# Altium integrated library Maxim Digital Potentiometers.IntLib: 1045 symbols (part 9 of 42)
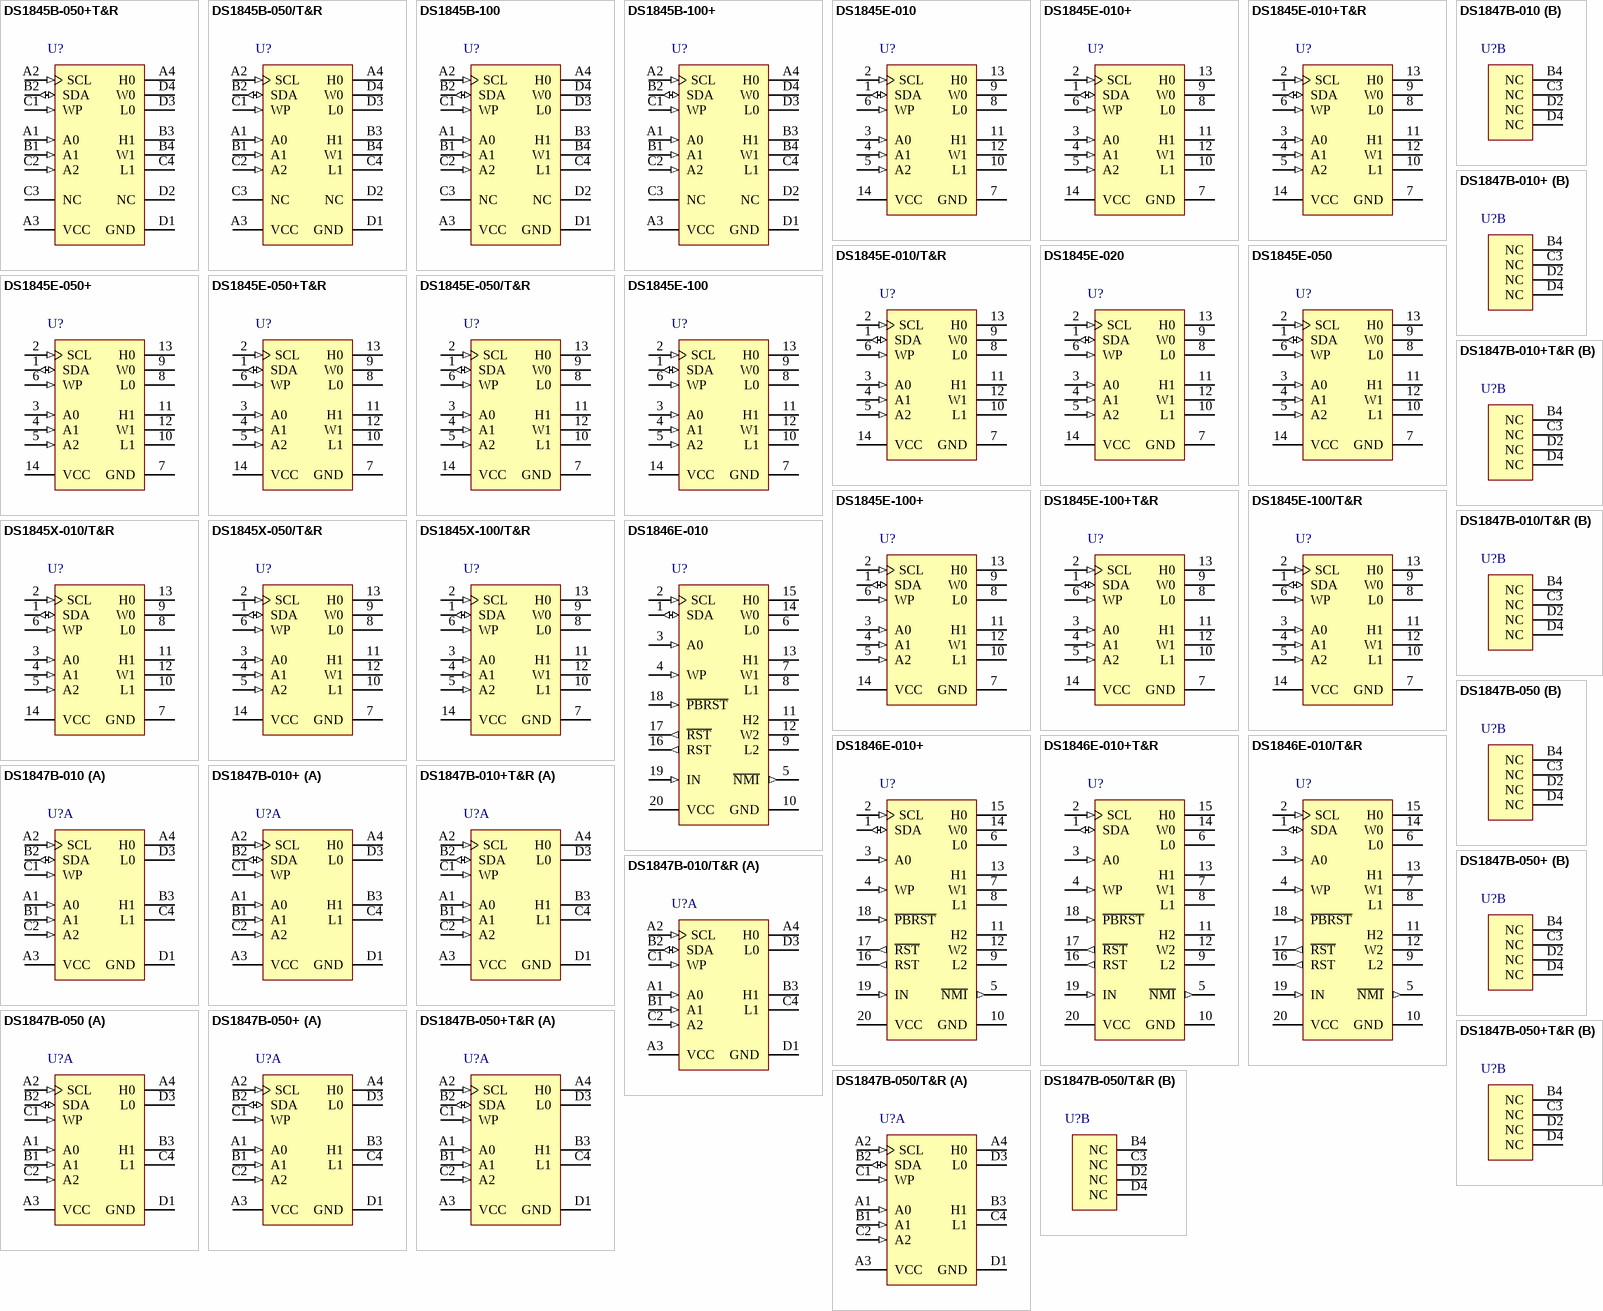
[diagram p37: symbols DS1845B-050+T&R to DS1847B-050/T&R]

## DS1845B-100
designator U?
Dual NV Potentiometer and Memory with 2-Wire Addressable Control Interface, Non-Volatile, Linear Taper, 100+256 Steps, -40 to 85 degC, 16-pin CSBGA (X16-1); PartNumber: DS1845B-100; DatasheetVersion: Rev. 3; PackageVersion: Rev. B, 06/2010; PackageReference: X16-1; PackageDescription: 16-Ball Chip-Scale Ball-Grid Array (X16-1), Body 4 x 4 mm, Pitch 1.0 mm; Supplier 1: Digi-Key; Supplier Part Number 1: DS1845B-100-ND; Supplier 2: Mouser; Supplier Part Number 2: N/A; Applications: Fiber Communications, GBIC; Control Interface: 2-Wire Addressable; Features: 256-Byte User EEPROM, EEPROM Wiper Memory; Mounting Technology: Surface Mount; ComponentLink1Description: Manufacturer URL; ComponentLink1URL: http://www.maximintegrated.com/; ComponentLink2Description: Datasheet; ComponentLink2URL: http://datasheets.maximintegrated.com/en/ds/DS1845.pdf; ComponentLink3Description: Package Specification; ComponentLink3URL: http://pdfserv.maximintegrated.com/package_dwgs/21-0355.PDF
footprint MAXM-X16-1 (BGA, 16-Balls, Body 4x4mm, Pitch 1.0mm)
pins: A1 A0 (in) "Address Input. Pins A0, A1, and A2 are used to specify the address of each DS1855 when used in a multi-dropped configuration. Up to eight DS1855s may be addressed on a single 2-wire bus.", A2 SCL (in) "2-Wire Serial Clock Input. The serial clock input is used to clock data into the DS1855 on rising edges and clock data out on falling edges.", A3 VCC (power) "Power Supply Terminal. The DS1855 will support supply voltages ranging from +2.7V to +5.5V.", A4 H0 "High terminal of Potentiometer 0. For both potentiometers, it is not required that the high terminal be connected to a potential greater than the low terminal. Voltage applied to the high terminal of each potentiometer (See Datasheet)", B1 A1 (in) "Address Input.", B2 SDA (io) "2-Wire serial data interface. The serial data pin is for serial data transfer to and from the DS1855. The pin is open drain and may be wire-ORed with other open drain or open collector interfaces.", B3 H1 "High terminal of Potentiometer 1.", B4 W1 "Wiper terminal of Pot 1. The wiper position of Potentiometer 1 is determined by the byte at EEPROM memory location F8h.", C1 WP (in) "Write Protect Input. If set to logic 0, the data in memory and the potentiometer wiper setting may be changed. If set to logic 1, both the memory and the potentiometer wiper settings will be write protected. The WP pin is (See Datasheet)", C2 A2 (in) "Address Input.", C3 NC "No Connect.", C4 L1 "Low terminal of Potentiometer 1.", D1 GND (power) "Ground Terminal.", D2 NC "No Connect.", D3 L0 "Low terminal of Potentiometer 0. For both potentiometers, it is not required that the low terminal be connected to a potential less than the high terminal. Voltage applied to the low terminal of each potentiometer cannot (See Datasheet)", D4 W0 "Wiper terminal of Pot 0. The wiper position of Potentiometer 0 is determined by the byte at EEPROM memory location F9h. Voltage applied to the wiper terminal of each potentiometer cannot exceed the power supply voltage, VCC, (See Datasheet)"

## DS1845B-100+
designator U?
Dual NV Potentiometer and Memory with 2-Wire Addressable Control Interface, Non-Volatile, Linear Taper, 100+256 Steps, -40 to 85 degC, 16-pin CSBGA (X16+1), Pb-Free; PartNumber: DS1845B-100+; DatasheetVersion: Rev. 3; PackageVersion: Rev. B, 06/2010; PackageReference: X16+1; PackageDescription: 16-Ball Chip-Scale Ball-Grid Array (X16+1), Body 4 x 4 mm, Pitch 1.0 mm; Supplier 1: Digi-Key; Supplier Part Number 1: DS1845B-100+-ND; Supplier 2: Mouser; Supplier Part Number 2: 700-DS1845B-100; Applications: Fiber Communications, GBIC; Control Interface: 2-Wire Addressable; Features: 256-Byte User EEPROM, EEPROM Wiper Memory; Mounting Technology: Surface Mount; ComponentLink1Description: Manufacturer URL; ComponentLink1URL: http://www.maximintegrated.com/; ComponentLink2Description: Datasheet; ComponentLink2URL: http://datasheets.maximintegrated.com/en/ds/DS1845.pdf; ComponentLink3Description: Package Specification; ComponentLink3URL: http://pdfserv.maximintegrated.com/package_dwgs/21-0355.PDF
footprint MAXM-X16+1 (BGA, 16-Balls, Body 4x4mm, Pitch 1.0mm)
pins: A1 A0 (in) "Address Input. Pins A0, A1, and A2 are used to specify the address of each DS1855 when used in a multi-dropped configuration. Up to eight DS1855s may be addressed on a single 2-wire bus.", A2 SCL (in) "2-Wire Serial Clock Input. The serial clock input is used to clock data into the DS1855 on rising edges and clock data out on falling edges.", A3 VCC (power) "Power Supply Terminal. The DS1855 will support supply voltages ranging from +2.7V to +5.5V.", A4 H0 "High terminal of Potentiometer 0. For both potentiometers, it is not required that the high terminal be connected to a potential greater than the low terminal. Voltage applied to the high terminal of each potentiometer (See Datasheet)", B1 A1 (in) "Address Input.", B2 SDA (io) "2-Wire serial data interface. The serial data pin is for serial data transfer to and from the DS1855. The pin is open drain and may be wire-ORed with other open drain or open collector interfaces.", B3 H1 "High terminal of Potentiometer 1.", B4 W1 "Wiper terminal of Pot 1. The wiper position of Potentiometer 1 is determined by the byte at EEPROM memory location F8h.", C1 WP (in) "Write Protect Input. If set to logic 0, the data in memory and the potentiometer wiper setting may be changed. If set to logic 1, both the memory and the potentiometer wiper settings will be write protected. The WP pin is (See Datasheet)", C2 A2 (in) "Address Input.", C3 NC "No Connect.", C4 L1 "Low terminal of Potentiometer 1.", D1 GND (power) "Ground Terminal.", D2 NC "No Connect.", D3 L0 "Low terminal of Potentiometer 0. For both potentiometers, it is not required that the low terminal be connected to a potential less than the high terminal. Voltage applied to the low terminal of each potentiometer cannot (See Datasheet)", D4 W0 "Wiper terminal of Pot 0. The wiper position of Potentiometer 0 is determined by the byte at EEPROM memory location F9h. Voltage applied to the wiper terminal of each potentiometer cannot exceed the power supply voltage, VCC, (See Datasheet)"

## DS1845E-010
designator U?
Dual NV Potentiometer and Memory with 2-Wire Addressable Control Interface, Non-Volatile, Linear Taper, 100+256 Steps, -40 to 85 degC, 14-pin TSSOP (U14-1); PartNumber: DS1845E-010; DatasheetVersion: Rev. 3; PackageVersion: Rev. L, 07/2010; PackageReference: U14-1; PackageDescription: 14-Pin Thin Shrink Small-Outline Package (U14-1), Body 5 x 4.4 mm, Pitch 0.65 mm; Supplier 1: Digi-Key; Supplier Part Number 1: DS1845E-010-ND; Supplier 2: Mouser; Supplier Part Number 2: N/A; Applications: Fiber Communications, GBIC; Control Interface: 2-Wire Addressable; Features: 256-Byte User EEPROM, EEPROM Wiper Memory; Mounting Technology: Surface Mount; Code_JEDEC: MO-153; ComponentLink1Description: Manufacturer URL; ComponentLink1URL: http://www.maximintegrated.com/; ComponentLink2Description: Datasheet; ComponentLink2URL: http://datasheets.maximintegrated.com/en/ds/DS1845.pdf; ComponentLink3Description: Package Specification; ComponentLink3URL: http://pdfserv.maximintegrated.com/package_dwgs/21-0066.PDF
footprint MAXM-U14-1_N (SOP, 14-Leads, Body 5x4.4mm, Pitch 0.65mm, IPC Medium Density)
footprint MAXM-U14-1_L (SOP, 14-Leads, Body 5x4.4mm, Pitch 0.65mm, IPC High Density)
footprint MAXM-U14-1_M (SOP, 14-Leads, Body 5x4.4mm, Pitch 0.65mm, IPC Low Density)
pins: 1 SDA (io) "2-Wire serial data interface. The serial data pin is for serial data transfer to and from the DS1855. The pin is open drain and may be wire-ORed with other open drain or open collector interfaces.", 2 SCL (in) "2-Wire Serial Clock Input. The serial clock input is used to clock data into the DS1855 on rising edges and clock data out on falling edges.", 3 A0 (in) "Address Input. Pins A0, A1, and A2 are used to specify the address of each DS1855 when used in a multi-dropped configuration. Up to eight DS1855s may be addressed on a single 2-wire bus.", 4 A1 (in) "Address Input.", 5 A2 (in) "Address Input.", 6 WP (in) "Write Protect Input. If set to logic 0, the data in memory and the potentiometer wiper setting may be changed. If set to logic 1, both the memory and the potentiometer wiper settings will be write protected. The WP pin is (See Datasheet)", 7 GND (power) "Ground Terminal.", 8 L0 "Low terminal of Potentiometer 0. For both potentiometers, it is not required that the low terminal be connected to a potential less than the high terminal. Voltage applied to the low terminal of each potentiometer cannot (See Datasheet)", 9 W0 "Wiper terminal of Pot 0. The wiper position of Potentiometer 0 is determined by the byte at EEPROM memory location F9h. Voltage applied to the wiper terminal of each potentiometer cannot exceed the power supply voltage, VCC, (See Datasheet)", 10 L1 "Low terminal of Potentiometer 1.", 11 H1 "High terminal of Potentiometer 1.", 12 W1 "Wiper terminal of Pot 1. The wiper position of Potentiometer 1 is determined by the byte at EEPROM memory location F8h.", 13 H0 "High terminal of Potentiometer 0. For both potentiometers, it is not required that the high terminal be connected to a potential greater than the low terminal. Voltage applied to the high terminal of each potentiometer (See Datasheet)", 14 VCC (power) "Power Supply Terminal. The DS1855 will support supply voltages ranging from +2.7V to +5.5V."

## DS1845E-010+
designator U?
Dual NV Potentiometer and Memory with 2-Wire Addressable Control Interface, Non-Volatile, Linear Taper, 100+256 Steps, -40 to 85 degC, 14-pin TSSOP (U14+1), Pb-Free; PartNumber: DS1845E-010+; DatasheetVersion: Rev. 3; PackageVersion: Rev. L, 07/2010; PackageReference: U14+1; PackageDescription: 14-Pin Thin Shrink Small-Outline Package (U14+1), Body 5 x 4.4 mm, Pitch 0.65 mm; Supplier 1: Digi-Key; Supplier Part Number 1: DS1845E-010+-ND; Supplier 2: Mouser; Supplier Part Number 2: 700-DS1845E-010; Applications: Fiber Communications, GBIC; Control Interface: 2-Wire Addressable; Features: 256-Byte User EEPROM, EEPROM Wiper Memory; Mounting Technology: Surface Mount; Code_JEDEC: MO-153; ComponentLink1Description: Manufacturer URL; ComponentLink1URL: http://www.maximintegrated.com/; ComponentLink2Description: Datasheet; ComponentLink2URL: http://datasheets.maximintegrated.com/en/ds/DS1845.pdf; ComponentLink3Description: Package Specification; ComponentLink3URL: http://pdfserv.maximintegrated.com/package_dwgs/21-0066.PDF
footprint MAXM-U14+1_N (SOP, 14-Leads, Body 5x4.4mm, Pitch 0.65mm, IPC Medium Density)
footprint MAXM-U14+1_L (SOP, 14-Leads, Body 5x4.4mm, Pitch 0.65mm, IPC High Density)
footprint MAXM-U14+1_M (SOP, 14-Leads, Body 5x4.4mm, Pitch 0.65mm, IPC Low Density)
pins: 1 SDA (io) "2-Wire serial data interface. The serial data pin is for serial data transfer to and from the DS1855. The pin is open drain and may be wire-ORed with other open drain or open collector interfaces.", 2 SCL (in) "2-Wire Serial Clock Input. The serial clock input is used to clock data into the DS1855 on rising edges and clock data out on falling edges.", 3 A0 (in) "Address Input. Pins A0, A1, and A2 are used to specify the address of each DS1855 when used in a multi-dropped configuration. Up to eight DS1855s may be addressed on a single 2-wire bus.", 4 A1 (in) "Address Input.", 5 A2 (in) "Address Input.", 6 WP (in) "Write Protect Input. If set to logic 0, the data in memory and the potentiometer wiper setting may be changed. If set to logic 1, both the memory and the potentiometer wiper settings will be write protected. The WP pin is (See Datasheet)", 7 GND (power) "Ground Terminal.", 8 L0 "Low terminal of Potentiometer 0. For both potentiometers, it is not required that the low terminal be connected to a potential less than the high terminal. Voltage applied to the low terminal of each potentiometer cannot (See Datasheet)", 9 W0 "Wiper terminal of Pot 0. The wiper position of Potentiometer 0 is determined by the byte at EEPROM memory location F9h. Voltage applied to the wiper terminal of each potentiometer cannot exceed the power supply voltage, VCC, (See Datasheet)", 10 L1 "Low terminal of Potentiometer 1.", 11 H1 "High terminal of Potentiometer 1.", 12 W1 "Wiper terminal of Pot 1. The wiper position of Potentiometer 1 is determined by the byte at EEPROM memory location F8h.", 13 H0 "High terminal of Potentiometer 0. For both potentiometers, it is not required that the high terminal be connected to a potential greater than the low terminal. Voltage applied to the high terminal of each potentiometer (See Datasheet)", 14 VCC (power) "Power Supply Terminal. The DS1855 will support supply voltages ranging from +2.7V to +5.5V."

## DS1845E-010+T&R
designator U?
Dual NV Potentiometer and Memory with 2-Wire Addressable Control Interface, Non-Volatile, Linear Taper, 100+256 Steps, -40 to 85 degC, 14-pin TSSOP (U14+1), Pb-Free, Tape and Reel; PartNumber: DS1845E-010+T&R; DatasheetVersion: Rev. 3; PackageVersion: Rev. L, 07/2010; PackageReference: U14+1; PackageDescription: 14-Pin Thin Shrink Small-Outline Package (U14+1), Body 5 x 4.4 mm, Pitch 0.65 mm; Supplier 1: Digi-Key; Supplier Part Number 1: DS1845E-010+T&R-ND; Supplier 2: Mouser; Supplier Part Number 2: 700-DS1845E-010T&R; Applications: Fiber Communications, GBIC; Control Interface: 2-Wire Addressable; Features: 256-Byte User EEPROM, EEPROM Wiper Memory; Mounting Technology: Surface Mount; Code_JEDEC: MO-153; ComponentLink1Description: Manufacturer URL; ComponentLink1URL: http://www.maximintegrated.com/; ComponentLink2Description: Datasheet; ComponentLink2URL: http://datasheets.maximintegrated.com/en/ds/DS1845.pdf; ComponentLink3Description: Package Specification; ComponentLink3URL: http://pdfserv.maximintegrated.com/package_dwgs/21-0066.PDF
footprint MAXM-U14+1_N (SOP, 14-Leads, Body 5x4.4mm, Pitch 0.65mm, IPC Medium Density)
footprint MAXM-U14+1_L (SOP, 14-Leads, Body 5x4.4mm, Pitch 0.65mm, IPC High Density)
footprint MAXM-U14+1_M (SOP, 14-Leads, Body 5x4.4mm, Pitch 0.65mm, IPC Low Density)
pins: 1 SDA (io) "2-Wire serial data interface. The serial data pin is for serial data transfer to and from the DS1855. The pin is open drain and may be wire-ORed with other open drain or open collector interfaces.", 2 SCL (in) "2-Wire Serial Clock Input. The serial clock input is used to clock data into the DS1855 on rising edges and clock data out on falling edges.", 3 A0 (in) "Address Input. Pins A0, A1, and A2 are used to specify the address of each DS1855 when used in a multi-dropped configuration. Up to eight DS1855s may be addressed on a single 2-wire bus.", 4 A1 (in) "Address Input.", 5 A2 (in) "Address Input.", 6 WP (in) "Write Protect Input. If set to logic 0, the data in memory and the potentiometer wiper setting may be changed. If set to logic 1, both the memory and the potentiometer wiper settings will be write protected. The WP pin is (See Datasheet)", 7 GND (power) "Ground Terminal.", 8 L0 "Low terminal of Potentiometer 0. For both potentiometers, it is not required that the low terminal be connected to a potential less than the high terminal. Voltage applied to the low terminal of each potentiometer cannot (See Datasheet)", 9 W0 "Wiper terminal of Pot 0. The wiper position of Potentiometer 0 is determined by the byte at EEPROM memory location F9h. Voltage applied to the wiper terminal of each potentiometer cannot exceed the power supply voltage, VCC, (See Datasheet)", 10 L1 "Low terminal of Potentiometer 1.", 11 H1 "High terminal of Potentiometer 1.", 12 W1 "Wiper terminal of Pot 1. The wiper position of Potentiometer 1 is determined by the byte at EEPROM memory location F8h.", 13 H0 "High terminal of Potentiometer 0. For both potentiometers, it is not required that the high terminal be connected to a potential greater than the low terminal. Voltage applied to the high terminal of each potentiometer (See Datasheet)", 14 VCC (power) "Power Supply Terminal. The DS1855 will support supply voltages ranging from +2.7V to +5.5V."

## DS1845E-010/T&R
designator U?
Dual NV Potentiometer and Memory with 2-Wire Addressable Control Interface, Non-Volatile, Linear Taper, 100+256 Steps, -40 to 85 degC, 14-pin TSSOP (U14-1), Tape and Reel; PartNumber: DS1845E-010/T&R; DatasheetVersion: Rev. 3; PackageVersion: Rev. L, 07/2010; PackageReference: U14-1; PackageDescription: 14-Pin Thin Shrink Small-Outline Package (U14-1), Body 5 x 4.4 mm, Pitch 0.65 mm; Supplier 1: Digi-Key; Supplier Part Number 1: DS1845E-010/T&R-ND; Supplier 2: Mouser; Supplier Part Number 2: N/A; Applications: Fiber Communications, GBIC; Control Interface: 2-Wire Addressable; Features: 256-Byte User EEPROM, EEPROM Wiper Memory; Mounting Technology: Surface Mount; Code_JEDEC: MO-153; ComponentLink1Description: Manufacturer URL; ComponentLink1URL: http://www.maximintegrated.com/; ComponentLink2Description: Datasheet; ComponentLink2URL: http://datasheets.maximintegrated.com/en/ds/DS1845.pdf; ComponentLink3Description: Package Specification; ComponentLink3URL: http://pdfserv.maximintegrated.com/package_dwgs/21-0066.PDF
footprint MAXM-U14-1_N (SOP, 14-Leads, Body 5x4.4mm, Pitch 0.65mm, IPC Medium Density)
footprint MAXM-U14-1_L (SOP, 14-Leads, Body 5x4.4mm, Pitch 0.65mm, IPC High Density)
footprint MAXM-U14-1_M (SOP, 14-Leads, Body 5x4.4mm, Pitch 0.65mm, IPC Low Density)
pins: 1 SDA (io) "2-Wire serial data interface. The serial data pin is for serial data transfer to and from the DS1855. The pin is open drain and may be wire-ORed with other open drain or open collector interfaces.", 2 SCL (in) "2-Wire Serial Clock Input. The serial clock input is used to clock data into the DS1855 on rising edges and clock data out on falling edges.", 3 A0 (in) "Address Input. Pins A0, A1, and A2 are used to specify the address of each DS1855 when used in a multi-dropped configuration. Up to eight DS1855s may be addressed on a single 2-wire bus.", 4 A1 (in) "Address Input.", 5 A2 (in) "Address Input.", 6 WP (in) "Write Protect Input. If set to logic 0, the data in memory and the potentiometer wiper setting may be changed. If set to logic 1, both the memory and the potentiometer wiper settings will be write protected. The WP pin is (See Datasheet)", 7 GND (power) "Ground Terminal.", 8 L0 "Low terminal of Potentiometer 0. For both potentiometers, it is not required that the low terminal be connected to a potential less than the high terminal. Voltage applied to the low terminal of each potentiometer cannot (See Datasheet)", 9 W0 "Wiper terminal of Pot 0. The wiper position of Potentiometer 0 is determined by the byte at EEPROM memory location F9h. Voltage applied to the wiper terminal of each potentiometer cannot exceed the power supply voltage, VCC, (See Datasheet)", 10 L1 "Low terminal of Potentiometer 1.", 11 H1 "High terminal of Potentiometer 1.", 12 W1 "Wiper terminal of Pot 1. The wiper position of Potentiometer 1 is determined by the byte at EEPROM memory location F8h.", 13 H0 "High terminal of Potentiometer 0. For both potentiometers, it is not required that the high terminal be connected to a potential greater than the low terminal. Voltage applied to the high terminal of each potentiometer (See Datasheet)", 14 VCC (power) "Power Supply Terminal. The DS1855 will support supply voltages ranging from +2.7V to +5.5V."

## DS1845E-020
designator U?
Dual NV Potentiometer and Memory with 2-Wire Addressable Control Interface, Non-Volatile, Linear Taper, 100+256 Steps, -40 to 85 degC, 14-pin TSSOP (U14-1); PartNumber: DS1845E-020; DatasheetVersion: Rev. 3; PackageVersion: Rev. L, 07/2010; PackageReference: U14-1; PackageDescription: 14-Pin Thin Shrink Small-Outline Package (U14-1), Body 5 x 4.4 mm, Pitch 0.65 mm; Supplier 1: Mouser; Supplier Part Number 1: N/A; Applications: Fiber Communications, GBIC; Control Interface: 2-Wire Addressable; Features: 256-Byte User EEPROM, EEPROM Wiper Memory; Mounting Technology: Surface Mount; Code_JEDEC: MO-153; ComponentLink1Description: Manufacturer URL; ComponentLink1URL: http://www.maximintegrated.com/; ComponentLink2Description: Datasheet; ComponentLink2URL: http://datasheets.maximintegrated.com/en/ds/DS1845.pdf; ComponentLink3Description: Package Specification; ComponentLink3URL: http://pdfserv.maximintegrated.com/package_dwgs/21-0066.PDF
footprint MAXM-U14-1_N (SOP, 14-Leads, Body 5x4.4mm, Pitch 0.65mm, IPC Medium Density)
footprint MAXM-U14-1_L (SOP, 14-Leads, Body 5x4.4mm, Pitch 0.65mm, IPC High Density)
footprint MAXM-U14-1_M (SOP, 14-Leads, Body 5x4.4mm, Pitch 0.65mm, IPC Low Density)
pins: 1 SDA (io) "2-Wire serial data interface. The serial data pin is for serial data transfer to and from the DS1855. The pin is open drain and may be wire-ORed with other open drain or open collector interfaces.", 2 SCL (in) "2-Wire Serial Clock Input. The serial clock input is used to clock data into the DS1855 on rising edges and clock data out on falling edges.", 3 A0 (in) "Address Input. Pins A0, A1, and A2 are used to specify the address of each DS1855 when used in a multi-dropped configuration. Up to eight DS1855s may be addressed on a single 2-wire bus.", 4 A1 (in) "Address Input.", 5 A2 (in) "Address Input.", 6 WP (in) "Write Protect Input. If set to logic 0, the data in memory and the potentiometer wiper setting may be changed. If set to logic 1, both the memory and the potentiometer wiper settings will be write protected. The WP pin is (See Datasheet)", 7 GND (power) "Ground Terminal.", 8 L0 "Low terminal of Potentiometer 0. For both potentiometers, it is not required that the low terminal be connected to a potential less than the high terminal. Voltage applied to the low terminal of each potentiometer cannot (See Datasheet)", 9 W0 "Wiper terminal of Pot 0. The wiper position of Potentiometer 0 is determined by the byte at EEPROM memory location F9h. Voltage applied to the wiper terminal of each potentiometer cannot exceed the power supply voltage, VCC, (See Datasheet)", 10 L1 "Low terminal of Potentiometer 1.", 11 H1 "High terminal of Potentiometer 1.", 12 W1 "Wiper terminal of Pot 1. The wiper position of Potentiometer 1 is determined by the byte at EEPROM memory location F8h.", 13 H0 "High terminal of Potentiometer 0. For both potentiometers, it is not required that the high terminal be connected to a potential greater than the low terminal. Voltage applied to the high terminal of each potentiometer (See Datasheet)", 14 VCC (power) "Power Supply Terminal. The DS1855 will support supply voltages ranging from +2.7V to +5.5V."

## DS1845E-050
designator U?
Dual NV Potentiometer and Memory with 2-Wire Addressable Control Interface, Non-Volatile, Linear Taper, 100+256 Steps, -40 to 85 degC, 14-pin TSSOP (U14-1); PartNumber: DS1845E-050; DatasheetVersion: Rev. 3; PackageVersion: Rev. L, 07/2010; PackageReference: U14-1; PackageDescription: 14-Pin Thin Shrink Small-Outline Package (U14-1), Body 5 x 4.4 mm, Pitch 0.65 mm; Supplier 1: Digi-Key; Supplier Part Number 1: DS1845E-050-ND; Supplier 2: Mouser; Supplier Part Number 2: N/A; Applications: Fiber Communications, GBIC; Control Interface: 2-Wire Addressable; Features: 256-Byte User EEPROM, EEPROM Wiper Memory; Mounting Technology: Surface Mount; Code_JEDEC: MO-153; ComponentLink1Description: Manufacturer URL; ComponentLink1URL: http://www.maximintegrated.com/; ComponentLink2Description: Datasheet; ComponentLink2URL: http://datasheets.maximintegrated.com/en/ds/DS1845.pdf; ComponentLink3Description: Package Specification; ComponentLink3URL: http://pdfserv.maximintegrated.com/package_dwgs/21-0066.PDF
footprint MAXM-U14-1_N (SOP, 14-Leads, Body 5x4.4mm, Pitch 0.65mm, IPC Medium Density)
footprint MAXM-U14-1_L (SOP, 14-Leads, Body 5x4.4mm, Pitch 0.65mm, IPC High Density)
footprint MAXM-U14-1_M (SOP, 14-Leads, Body 5x4.4mm, Pitch 0.65mm, IPC Low Density)
pins: 1 SDA (io) "2-Wire serial data interface. The serial data pin is for serial data transfer to and from the DS1855. The pin is open drain and may be wire-ORed with other open drain or open collector interfaces.", 2 SCL (in) "2-Wire Serial Clock Input. The serial clock input is used to clock data into the DS1855 on rising edges and clock data out on falling edges.", 3 A0 (in) "Address Input. Pins A0, A1, and A2 are used to specify the address of each DS1855 when used in a multi-dropped configuration. Up to eight DS1855s may be addressed on a single 2-wire bus.", 4 A1 (in) "Address Input.", 5 A2 (in) "Address Input.", 6 WP (in) "Write Protect Input. If set to logic 0, the data in memory and the potentiometer wiper setting may be changed. If set to logic 1, both the memory and the potentiometer wiper settings will be write protected. The WP pin is (See Datasheet)", 7 GND (power) "Ground Terminal.", 8 L0 "Low terminal of Potentiometer 0. For both potentiometers, it is not required that the low terminal be connected to a potential less than the high terminal. Voltage applied to the low terminal of each potentiometer cannot (See Datasheet)", 9 W0 "Wiper terminal of Pot 0. The wiper position of Potentiometer 0 is determined by the byte at EEPROM memory location F9h. Voltage applied to the wiper terminal of each potentiometer cannot exceed the power supply voltage, VCC, (See Datasheet)", 10 L1 "Low terminal of Potentiometer 1.", 11 H1 "High terminal of Potentiometer 1.", 12 W1 "Wiper terminal of Pot 1. The wiper position of Potentiometer 1 is determined by the byte at EEPROM memory location F8h.", 13 H0 "High terminal of Potentiometer 0. For both potentiometers, it is not required that the high terminal be connected to a potential greater than the low terminal. Voltage applied to the high terminal of each potentiometer (See Datasheet)", 14 VCC (power) "Power Supply Terminal. The DS1855 will support supply voltages ranging from +2.7V to +5.5V."

## DS1845E-050+
designator U?
Dual NV Potentiometer and Memory with 2-Wire Addressable Control Interface, Non-Volatile, Linear Taper, 100+256 Steps, -40 to 85 degC, 14-pin TSSOP (U14+1), Pb-Free; PartNumber: DS1845E-050+; DatasheetVersion: Rev. 3; PackageVersion: Rev. L, 07/2010; PackageReference: U14+1; PackageDescription: 14-Pin Thin Shrink Small-Outline Package (U14+1), Body 5 x 4.4 mm, Pitch 0.65 mm; Supplier 1: Digi-Key; Supplier Part Number 1: DS1845E-050+-ND; Supplier 2: Mouser; Supplier Part Number 2: 700-DS1845E-050; Applications: Fiber Communications, GBIC; Control Interface: 2-Wire Addressable; Features: 256-Byte User EEPROM, EEPROM Wiper Memory; Mounting Technology: Surface Mount; Code_JEDEC: MO-153; ComponentLink1Description: Manufacturer URL; ComponentLink1URL: http://www.maximintegrated.com/; ComponentLink2Description: Datasheet; ComponentLink2URL: http://datasheets.maximintegrated.com/en/ds/DS1845.pdf; ComponentLink3Description: Package Specification; ComponentLink3URL: http://pdfserv.maximintegrated.com/package_dwgs/21-0066.PDF
footprint MAXM-U14+1_N (SOP, 14-Leads, Body 5x4.4mm, Pitch 0.65mm, IPC Medium Density)
footprint MAXM-U14+1_L (SOP, 14-Leads, Body 5x4.4mm, Pitch 0.65mm, IPC High Density)
footprint MAXM-U14+1_M (SOP, 14-Leads, Body 5x4.4mm, Pitch 0.65mm, IPC Low Density)
pins: 1 SDA (io) "2-Wire serial data interface. The serial data pin is for serial data transfer to and from the DS1855. The pin is open drain and may be wire-ORed with other open drain or open collector interfaces.", 2 SCL (in) "2-Wire Serial Clock Input. The serial clock input is used to clock data into the DS1855 on rising edges and clock data out on falling edges.", 3 A0 (in) "Address Input. Pins A0, A1, and A2 are used to specify the address of each DS1855 when used in a multi-dropped configuration. Up to eight DS1855s may be addressed on a single 2-wire bus.", 4 A1 (in) "Address Input.", 5 A2 (in) "Address Input.", 6 WP (in) "Write Protect Input. If set to logic 0, the data in memory and the potentiometer wiper setting may be changed. If set to logic 1, both the memory and the potentiometer wiper settings will be write protected. The WP pin is (See Datasheet)", 7 GND (power) "Ground Terminal.", 8 L0 "Low terminal of Potentiometer 0. For both potentiometers, it is not required that the low terminal be connected to a potential less than the high terminal. Voltage applied to the low terminal of each potentiometer cannot (See Datasheet)", 9 W0 "Wiper terminal of Pot 0. The wiper position of Potentiometer 0 is determined by the byte at EEPROM memory location F9h. Voltage applied to the wiper terminal of each potentiometer cannot exceed the power supply voltage, VCC, (See Datasheet)", 10 L1 "Low terminal of Potentiometer 1.", 11 H1 "High terminal of Potentiometer 1.", 12 W1 "Wiper terminal of Pot 1. The wiper position of Potentiometer 1 is determined by the byte at EEPROM memory location F8h.", 13 H0 "High terminal of Potentiometer 0. For both potentiometers, it is not required that the high terminal be connected to a potential greater than the low terminal. Voltage applied to the high terminal of each potentiometer (See Datasheet)", 14 VCC (power) "Power Supply Terminal. The DS1855 will support supply voltages ranging from +2.7V to +5.5V."

## DS1845E-050+T&R
designator U?
Dual NV Potentiometer and Memory with 2-Wire Addressable Control Interface, Non-Volatile, Linear Taper, 100+256 Steps, -40 to 85 degC, 14-pin TSSOP (U14+1), Pb-Free, Tape and Reel; PartNumber: DS1845E-050+T&R; DatasheetVersion: Rev. 3; PackageVersion: Rev. L, 07/2010; PackageReference: U14+1; PackageDescription: 14-Pin Thin Shrink Small-Outline Package (U14+1), Body 5 x 4.4 mm, Pitch 0.65 mm; Supplier 1: Digi-Key; Supplier Part Number 1: DS1845E-050+T&R-ND; Supplier 2: Mouser; Supplier Part Number 2: 700-DS1845E-050T&R; Applications: Fiber Communications, GBIC; Control Interface: 2-Wire Addressable; Features: 256-Byte User EEPROM, EEPROM Wiper Memory; Mounting Technology: Surface Mount; Code_JEDEC: MO-153; ComponentLink1Description: Manufacturer URL; ComponentLink1URL: http://www.maximintegrated.com/; ComponentLink2Description: Datasheet; ComponentLink2URL: http://datasheets.maximintegrated.com/en/ds/DS1845.pdf; ComponentLink3Description: Package Specification; ComponentLink3URL: http://pdfserv.maximintegrated.com/package_dwgs/21-0066.PDF
footprint MAXM-U14+1_N (SOP, 14-Leads, Body 5x4.4mm, Pitch 0.65mm, IPC Medium Density)
footprint MAXM-U14+1_L (SOP, 14-Leads, Body 5x4.4mm, Pitch 0.65mm, IPC High Density)
footprint MAXM-U14+1_M (SOP, 14-Leads, Body 5x4.4mm, Pitch 0.65mm, IPC Low Density)
pins: 1 SDA (io) "2-Wire serial data interface. The serial data pin is for serial data transfer to and from the DS1855. The pin is open drain and may be wire-ORed with other open drain or open collector interfaces.", 2 SCL (in) "2-Wire Serial Clock Input. The serial clock input is used to clock data into the DS1855 on rising edges and clock data out on falling edges.", 3 A0 (in) "Address Input. Pins A0, A1, and A2 are used to specify the address of each DS1855 when used in a multi-dropped configuration. Up to eight DS1855s may be addressed on a single 2-wire bus.", 4 A1 (in) "Address Input.", 5 A2 (in) "Address Input.", 6 WP (in) "Write Protect Input. If set to logic 0, the data in memory and the potentiometer wiper setting may be changed. If set to logic 1, both the memory and the potentiometer wiper settings will be write protected. The WP pin is (See Datasheet)", 7 GND (power) "Ground Terminal.", 8 L0 "Low terminal of Potentiometer 0. For both potentiometers, it is not required that the low terminal be connected to a potential less than the high terminal. Voltage applied to the low terminal of each potentiometer cannot (See Datasheet)", 9 W0 "Wiper terminal of Pot 0. The wiper position of Potentiometer 0 is determined by the byte at EEPROM memory location F9h. Voltage applied to the wiper terminal of each potentiometer cannot exceed the power supply voltage, VCC, (See Datasheet)", 10 L1 "Low terminal of Potentiometer 1.", 11 H1 "High terminal of Potentiometer 1.", 12 W1 "Wiper terminal of Pot 1. The wiper position of Potentiometer 1 is determined by the byte at EEPROM memory location F8h.", 13 H0 "High terminal of Potentiometer 0. For both potentiometers, it is not required that the high terminal be connected to a potential greater than the low terminal. Voltage applied to the high terminal of each potentiometer (See Datasheet)", 14 VCC (power) "Power Supply Terminal. The DS1855 will support supply voltages ranging from +2.7V to +5.5V."

## DS1845E-050/T&R
designator U?
Dual NV Potentiometer and Memory with 2-Wire Addressable Control Interface, Non-Volatile, Linear Taper, 100+256 Steps, -40 to 85 degC, 14-pin TSSOP (U14-1), Tape and Reel; PartNumber: DS1845E-050/T&R; DatasheetVersion: Rev. 3; PackageVersion: Rev. L, 07/2010; PackageReference: U14-1; PackageDescription: 14-Pin Thin Shrink Small-Outline Package (U14-1), Body 5 x 4.4 mm, Pitch 0.65 mm; Supplier 1: Digi-Key; Supplier Part Number 1: DS1845E-050/T&R-ND; Supplier 2: Mouser; Supplier Part Number 2: N/A; Applications: Fiber Communications, GBIC; Control Interface: 2-Wire Addressable; Features: 256-Byte User EEPROM, EEPROM Wiper Memory; Mounting Technology: Surface Mount; Code_JEDEC: MO-153; ComponentLink1Description: Manufacturer URL; ComponentLink1URL: http://www.maximintegrated.com/; ComponentLink2Description: Datasheet; ComponentLink2URL: http://datasheets.maximintegrated.com/en/ds/DS1845.pdf; ComponentLink3Description: Package Specification; ComponentLink3URL: http://pdfserv.maximintegrated.com/package_dwgs/21-0066.PDF
footprint MAXM-U14-1_N (SOP, 14-Leads, Body 5x4.4mm, Pitch 0.65mm, IPC Medium Density)
footprint MAXM-U14-1_L (SOP, 14-Leads, Body 5x4.4mm, Pitch 0.65mm, IPC High Density)
footprint MAXM-U14-1_M (SOP, 14-Leads, Body 5x4.4mm, Pitch 0.65mm, IPC Low Density)
pins: 1 SDA (io) "2-Wire serial data interface. The serial data pin is for serial data transfer to and from the DS1855. The pin is open drain and may be wire-ORed with other open drain or open collector interfaces.", 2 SCL (in) "2-Wire Serial Clock Input. The serial clock input is used to clock data into the DS1855 on rising edges and clock data out on falling edges.", 3 A0 (in) "Address Input. Pins A0, A1, and A2 are used to specify the address of each DS1855 when used in a multi-dropped configuration. Up to eight DS1855s may be addressed on a single 2-wire bus.", 4 A1 (in) "Address Input.", 5 A2 (in) "Address Input.", 6 WP (in) "Write Protect Input. If set to logic 0, the data in memory and the potentiometer wiper setting may be changed. If set to logic 1, both the memory and the potentiometer wiper settings will be write protected. The WP pin is (See Datasheet)", 7 GND (power) "Ground Terminal.", 8 L0 "Low terminal of Potentiometer 0. For both potentiometers, it is not required that the low terminal be connected to a potential less than the high terminal. Voltage applied to the low terminal of each potentiometer cannot (See Datasheet)", 9 W0 "Wiper terminal of Pot 0. The wiper position of Potentiometer 0 is determined by the byte at EEPROM memory location F9h. Voltage applied to the wiper terminal of each potentiometer cannot exceed the power supply voltage, VCC, (See Datasheet)", 10 L1 "Low terminal of Potentiometer 1.", 11 H1 "High terminal of Potentiometer 1.", 12 W1 "Wiper terminal of Pot 1. The wiper position of Potentiometer 1 is determined by the byte at EEPROM memory location F8h.", 13 H0 "High terminal of Potentiometer 0. For both potentiometers, it is not required that the high terminal be connected to a potential greater than the low terminal. Voltage applied to the high terminal of each potentiometer (See Datasheet)", 14 VCC (power) "Power Supply Terminal. The DS1855 will support supply voltages ranging from +2.7V to +5.5V."

## DS1845E-100
designator U?
Dual NV Potentiometer and Memory with 2-Wire Addressable Control Interface, Non-Volatile, Linear Taper, 100+256 Steps, -40 to 85 degC, 14-pin TSSOP (U14-1); PartNumber: DS1845E-100; DatasheetVersion: Rev. 3; PackageVersion: Rev. L, 07/2010; PackageReference: U14-1; PackageDescription: 14-Pin Thin Shrink Small-Outline Package (U14-1), Body 5 x 4.4 mm, Pitch 0.65 mm; Supplier 1: Digi-Key; Supplier Part Number 1: DS1845E-100-ND; Supplier 2: Mouser; Supplier Part Number 2: N/A; Applications: Fiber Communications, GBIC; Control Interface: 2-Wire Addressable; Features: 256-Byte User EEPROM, EEPROM Wiper Memory; Mounting Technology: Surface Mount; Code_JEDEC: MO-153; ComponentLink1Description: Manufacturer URL; ComponentLink1URL: http://www.maximintegrated.com/; ComponentLink2Description: Datasheet; ComponentLink2URL: http://datasheets.maximintegrated.com/en/ds/DS1845.pdf; ComponentLink3Description: Package Specification; ComponentLink3URL: http://pdfserv.maximintegrated.com/package_dwgs/21-0066.PDF
footprint MAXM-U14-1_N (SOP, 14-Leads, Body 5x4.4mm, Pitch 0.65mm, IPC Medium Density)
footprint MAXM-U14-1_L (SOP, 14-Leads, Body 5x4.4mm, Pitch 0.65mm, IPC High Density)
footprint MAXM-U14-1_M (SOP, 14-Leads, Body 5x4.4mm, Pitch 0.65mm, IPC Low Density)
pins: 1 SDA (io) "2-Wire serial data interface. The serial data pin is for serial data transfer to and from the DS1855. The pin is open drain and may be wire-ORed with other open drain or open collector interfaces.", 2 SCL (in) "2-Wire Serial Clock Input. The serial clock input is used to clock data into the DS1855 on rising edges and clock data out on falling edges.", 3 A0 (in) "Address Input. Pins A0, A1, and A2 are used to specify the address of each DS1855 when used in a multi-dropped configuration. Up to eight DS1855s may be addressed on a single 2-wire bus.", 4 A1 (in) "Address Input.", 5 A2 (in) "Address Input.", 6 WP (in) "Write Protect Input. If set to logic 0, the data in memory and the potentiometer wiper setting may be changed. If set to logic 1, both the memory and the potentiometer wiper settings will be write protected. The WP pin is (See Datasheet)", 7 GND (power) "Ground Terminal.", 8 L0 "Low terminal of Potentiometer 0. For both potentiometers, it is not required that the low terminal be connected to a potential less than the high terminal. Voltage applied to the low terminal of each potentiometer cannot (See Datasheet)", 9 W0 "Wiper terminal of Pot 0. The wiper position of Potentiometer 0 is determined by the byte at EEPROM memory location F9h. Voltage applied to the wiper terminal of each potentiometer cannot exceed the power supply voltage, VCC, (See Datasheet)", 10 L1 "Low terminal of Potentiometer 1.", 11 H1 "High terminal of Potentiometer 1.", 12 W1 "Wiper terminal of Pot 1. The wiper position of Potentiometer 1 is determined by the byte at EEPROM memory location F8h.", 13 H0 "High terminal of Potentiometer 0. For both potentiometers, it is not required that the high terminal be connected to a potential greater than the low terminal. Voltage applied to the high terminal of each potentiometer (See Datasheet)", 14 VCC (power) "Power Supply Terminal. The DS1855 will support supply voltages ranging from +2.7V to +5.5V."

## DS1845E-100+
designator U?
Dual NV Potentiometer and Memory with 2-Wire Addressable Control Interface, Non-Volatile, Linear Taper, 100+256 Steps, -40 to 85 degC, 14-pin TSSOP (U14+1), Pb-Free; PartNumber: DS1845E-100+; DatasheetVersion: Rev. 3; PackageVersion: Rev. L, 07/2010; PackageReference: U14+1; PackageDescription: 14-Pin Thin Shrink Small-Outline Package (U14+1), Body 5 x 4.4 mm, Pitch 0.65 mm; Supplier 1: Digi-Key; Supplier Part Number 1: DS1845E-100+-ND; Supplier 2: Mouser; Supplier Part Number 2: 700-DS1845E-100; Applications: Fiber Communications, GBIC; Control Interface: 2-Wire Addressable; Features: 256-Byte User EEPROM, EEPROM Wiper Memory; Mounting Technology: Surface Mount; Code_JEDEC: MO-153; ComponentLink1Description: Manufacturer URL; ComponentLink1URL: http://www.maximintegrated.com/; ComponentLink2Description: Datasheet; ComponentLink2URL: http://datasheets.maximintegrated.com/en/ds/DS1845.pdf; ComponentLink3Description: Package Specification; ComponentLink3URL: http://pdfserv.maximintegrated.com/package_dwgs/21-0066.PDF
footprint MAXM-U14+1_N (SOP, 14-Leads, Body 5x4.4mm, Pitch 0.65mm, IPC Medium Density)
footprint MAXM-U14+1_L (SOP, 14-Leads, Body 5x4.4mm, Pitch 0.65mm, IPC High Density)
footprint MAXM-U14+1_M (SOP, 14-Leads, Body 5x4.4mm, Pitch 0.65mm, IPC Low Density)
pins: 1 SDA (io) "2-Wire serial data interface. The serial data pin is for serial data transfer to and from the DS1855. The pin is open drain and may be wire-ORed with other open drain or open collector interfaces.", 2 SCL (in) "2-Wire Serial Clock Input. The serial clock input is used to clock data into the DS1855 on rising edges and clock data out on falling edges.", 3 A0 (in) "Address Input. Pins A0, A1, and A2 are used to specify the address of each DS1855 when used in a multi-dropped configuration. Up to eight DS1855s may be addressed on a single 2-wire bus.", 4 A1 (in) "Address Input.", 5 A2 (in) "Address Input.", 6 WP (in) "Write Protect Input. If set to logic 0, the data in memory and the potentiometer wiper setting may be changed. If set to logic 1, both the memory and the potentiometer wiper settings will be write protected. The WP pin is (See Datasheet)", 7 GND (power) "Ground Terminal.", 8 L0 "Low terminal of Potentiometer 0. For both potentiometers, it is not required that the low terminal be connected to a potential less than the high terminal. Voltage applied to the low terminal of each potentiometer cannot (See Datasheet)", 9 W0 "Wiper terminal of Pot 0. The wiper position of Potentiometer 0 is determined by the byte at EEPROM memory location F9h. Voltage applied to the wiper terminal of each potentiometer cannot exceed the power supply voltage, VCC, (See Datasheet)", 10 L1 "Low terminal of Potentiometer 1.", 11 H1 "High terminal of Potentiometer 1.", 12 W1 "Wiper terminal of Pot 1. The wiper position of Potentiometer 1 is determined by the byte at EEPROM memory location F8h.", 13 H0 "High terminal of Potentiometer 0. For both potentiometers, it is not required that the high terminal be connected to a potential greater than the low terminal. Voltage applied to the high terminal of each potentiometer (See Datasheet)", 14 VCC (power) "Power Supply Terminal. The DS1855 will support supply voltages ranging from +2.7V to +5.5V."

## DS1845E-100+T&R
designator U?
Dual NV Potentiometer and Memory with 2-Wire Addressable Control Interface, Non-Volatile, Linear Taper, 100+256 Steps, -40 to 85 degC, 14-pin TSSOP (U14+1), Pb-Free, Tape and Reel; PartNumber: DS1845E-100+T&R; DatasheetVersion: Rev. 3; PackageVersion: Rev. L, 07/2010; PackageReference: U14+1; PackageDescription: 14-Pin Thin Shrink Small-Outline Package (U14+1), Body 5 x 4.4 mm, Pitch 0.65 mm; Supplier 1: Digi-Key; Supplier Part Number 1: DS1845E-100+T&R-ND; Supplier 2: Mouser; Supplier Part Number 2: 700-DS1845E-100T&R; Applications: Fiber Communications, GBIC; Control Interface: 2-Wire Addressable; Features: 256-Byte User EEPROM, EEPROM Wiper Memory; Mounting Technology: Surface Mount; Code_JEDEC: MO-153; ComponentLink1Description: Manufacturer URL; ComponentLink1URL: http://www.maximintegrated.com/; ComponentLink2Description: Datasheet; ComponentLink2URL: http://datasheets.maximintegrated.com/en/ds/DS1845.pdf; ComponentLink3Description: Package Specification; ComponentLink3URL: http://pdfserv.maximintegrated.com/package_dwgs/21-0066.PDF
footprint MAXM-U14+1_N (SOP, 14-Leads, Body 5x4.4mm, Pitch 0.65mm, IPC Medium Density)
footprint MAXM-U14+1_L (SOP, 14-Leads, Body 5x4.4mm, Pitch 0.65mm, IPC High Density)
footprint MAXM-U14+1_M (SOP, 14-Leads, Body 5x4.4mm, Pitch 0.65mm, IPC Low Density)
pins: 1 SDA (io) "2-Wire serial data interface. The serial data pin is for serial data transfer to and from the DS1855. The pin is open drain and may be wire-ORed with other open drain or open collector interfaces.", 2 SCL (in) "2-Wire Serial Clock Input. The serial clock input is used to clock data into the DS1855 on rising edges and clock data out on falling edges.", 3 A0 (in) "Address Input. Pins A0, A1, and A2 are used to specify the address of each DS1855 when used in a multi-dropped configuration. Up to eight DS1855s may be addressed on a single 2-wire bus.", 4 A1 (in) "Address Input.", 5 A2 (in) "Address Input.", 6 WP (in) "Write Protect Input. If set to logic 0, the data in memory and the potentiometer wiper setting may be changed. If set to logic 1, both the memory and the potentiometer wiper settings will be write protected. The WP pin is (See Datasheet)", 7 GND (power) "Ground Terminal.", 8 L0 "Low terminal of Potentiometer 0. For both potentiometers, it is not required that the low terminal be connected to a potential less than the high terminal. Voltage applied to the low terminal of each potentiometer cannot (See Datasheet)", 9 W0 "Wiper terminal of Pot 0. The wiper position of Potentiometer 0 is determined by the byte at EEPROM memory location F9h. Voltage applied to the wiper terminal of each potentiometer cannot exceed the power supply voltage, VCC, (See Datasheet)", 10 L1 "Low terminal of Potentiometer 1.", 11 H1 "High terminal of Potentiometer 1.", 12 W1 "Wiper terminal of Pot 1. The wiper position of Potentiometer 1 is determined by the byte at EEPROM memory location F8h.", 13 H0 "High terminal of Potentiometer 0. For both potentiometers, it is not required that the high terminal be connected to a potential greater than the low terminal. Voltage applied to the high terminal of each potentiometer (See Datasheet)", 14 VCC (power) "Power Supply Terminal. The DS1855 will support supply voltages ranging from +2.7V to +5.5V."

## DS1845E-100/T&R
designator U?
Dual NV Potentiometer and Memory with 2-Wire Addressable Control Interface, Non-Volatile, Linear Taper, 100+256 Steps, -40 to 85 degC, 14-pin TSSOP (U14-1), Tape and Reel; PartNumber: DS1845E-100/T&R; DatasheetVersion: Rev. 3; PackageVersion: Rev. L, 07/2010; PackageReference: U14-1; PackageDescription: 14-Pin Thin Shrink Small-Outline Package (U14-1), Body 5 x 4.4 mm, Pitch 0.65 mm; Supplier 1: Digi-Key; Supplier Part Number 1: DS1845E-100/T&R-ND; Supplier 2: Mouser; Supplier Part Number 2: N/A; Applications: Fiber Communications, GBIC; Control Interface: 2-Wire Addressable; Features: 256-Byte User EEPROM, EEPROM Wiper Memory; Mounting Technology: Surface Mount; Code_JEDEC: MO-153; ComponentLink1Description: Manufacturer URL; ComponentLink1URL: http://www.maximintegrated.com/; ComponentLink2Description: Datasheet; ComponentLink2URL: http://datasheets.maximintegrated.com/en/ds/DS1845.pdf; ComponentLink3Description: Package Specification; ComponentLink3URL: http://pdfserv.maximintegrated.com/package_dwgs/21-0066.PDF
footprint MAXM-U14-1_N (SOP, 14-Leads, Body 5x4.4mm, Pitch 0.65mm, IPC Medium Density)
footprint MAXM-U14-1_L (SOP, 14-Leads, Body 5x4.4mm, Pitch 0.65mm, IPC High Density)
footprint MAXM-U14-1_M (SOP, 14-Leads, Body 5x4.4mm, Pitch 0.65mm, IPC Low Density)
pins: 1 SDA (io) "2-Wire serial data interface. The serial data pin is for serial data transfer to and from the DS1855. The pin is open drain and may be wire-ORed with other open drain or open collector interfaces.", 2 SCL (in) "2-Wire Serial Clock Input. The serial clock input is used to clock data into the DS1855 on rising edges and clock data out on falling edges.", 3 A0 (in) "Address Input. Pins A0, A1, and A2 are used to specify the address of each DS1855 when used in a multi-dropped configuration. Up to eight DS1855s may be addressed on a single 2-wire bus.", 4 A1 (in) "Address Input.", 5 A2 (in) "Address Input.", 6 WP (in) "Write Protect Input. If set to logic 0, the data in memory and the potentiometer wiper setting may be changed. If set to logic 1, both the memory and the potentiometer wiper settings will be write protected. The WP pin is (See Datasheet)", 7 GND (power) "Ground Terminal.", 8 L0 "Low terminal of Potentiometer 0. For both potentiometers, it is not required that the low terminal be connected to a potential less than the high terminal. Voltage applied to the low terminal of each potentiometer cannot (See Datasheet)", 9 W0 "Wiper terminal of Pot 0. The wiper position of Potentiometer 0 is determined by the byte at EEPROM memory location F9h. Voltage applied to the wiper terminal of each potentiometer cannot exceed the power supply voltage, VCC, (See Datasheet)", 10 L1 "Low terminal of Potentiometer 1.", 11 H1 "High terminal of Potentiometer 1.", 12 W1 "Wiper terminal of Pot 1. The wiper position of Potentiometer 1 is determined by the byte at EEPROM memory location F8h.", 13 H0 "High terminal of Potentiometer 0. For both potentiometers, it is not required that the high terminal be connected to a potential greater than the low terminal. Voltage applied to the high terminal of each potentiometer (See Datasheet)", 14 VCC (power) "Power Supply Terminal. The DS1855 will support supply voltages ranging from +2.7V to +5.5V."